# Altium schematic symbol library AC0402FR-071KL.SchLib: 1 symbol
Pins are listed as number, name and electrical type; pins without a type are passive.

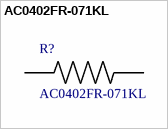
[diagram p0: symbol AC0402FR-071KL]

## AC0402FR-071KL
designator R?
Value: *
footprint *RESC1005X37N
pins: 1, 2